# EAGLE library part LM2678T-ADJ (library untitled)
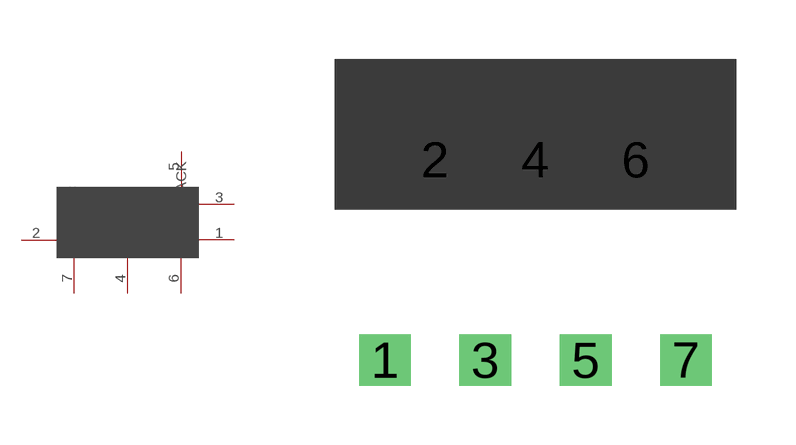
[diagram p0: symbol with the pads of TO-220/7; footprint TO-220/7]

Designator prefix -

## LM2678T-ADJ  [TO-220/7]
1  OUT
2  IN
3  CBOOST
4  GND
5  NC
6  FEEDBACK
7  ON/OFF

## Footprint TO-220/7 (pad centres in mm)
drill 0.8 square: 1 -3.81,-2.54; 2 -2.54,2.54; 3 -1.27,-2.54; 4 0,2.54; 5 1.27,-2.54; 6 2.54,2.54; 7 3.81,-2.54